# Altium footprint library Connectors.PcbLib: 37 footprints (part 1 of 3)
Each footprint in its own frame and in the unit in brackets; x right, y up, seen from the top. Pads: shape width x height; smd on the part's side, far side on the other; paste and mask are expansions set on the pad; w line width, h text height; cw(c..) or ccw(c..) is an arc to the next point about the centre after c.
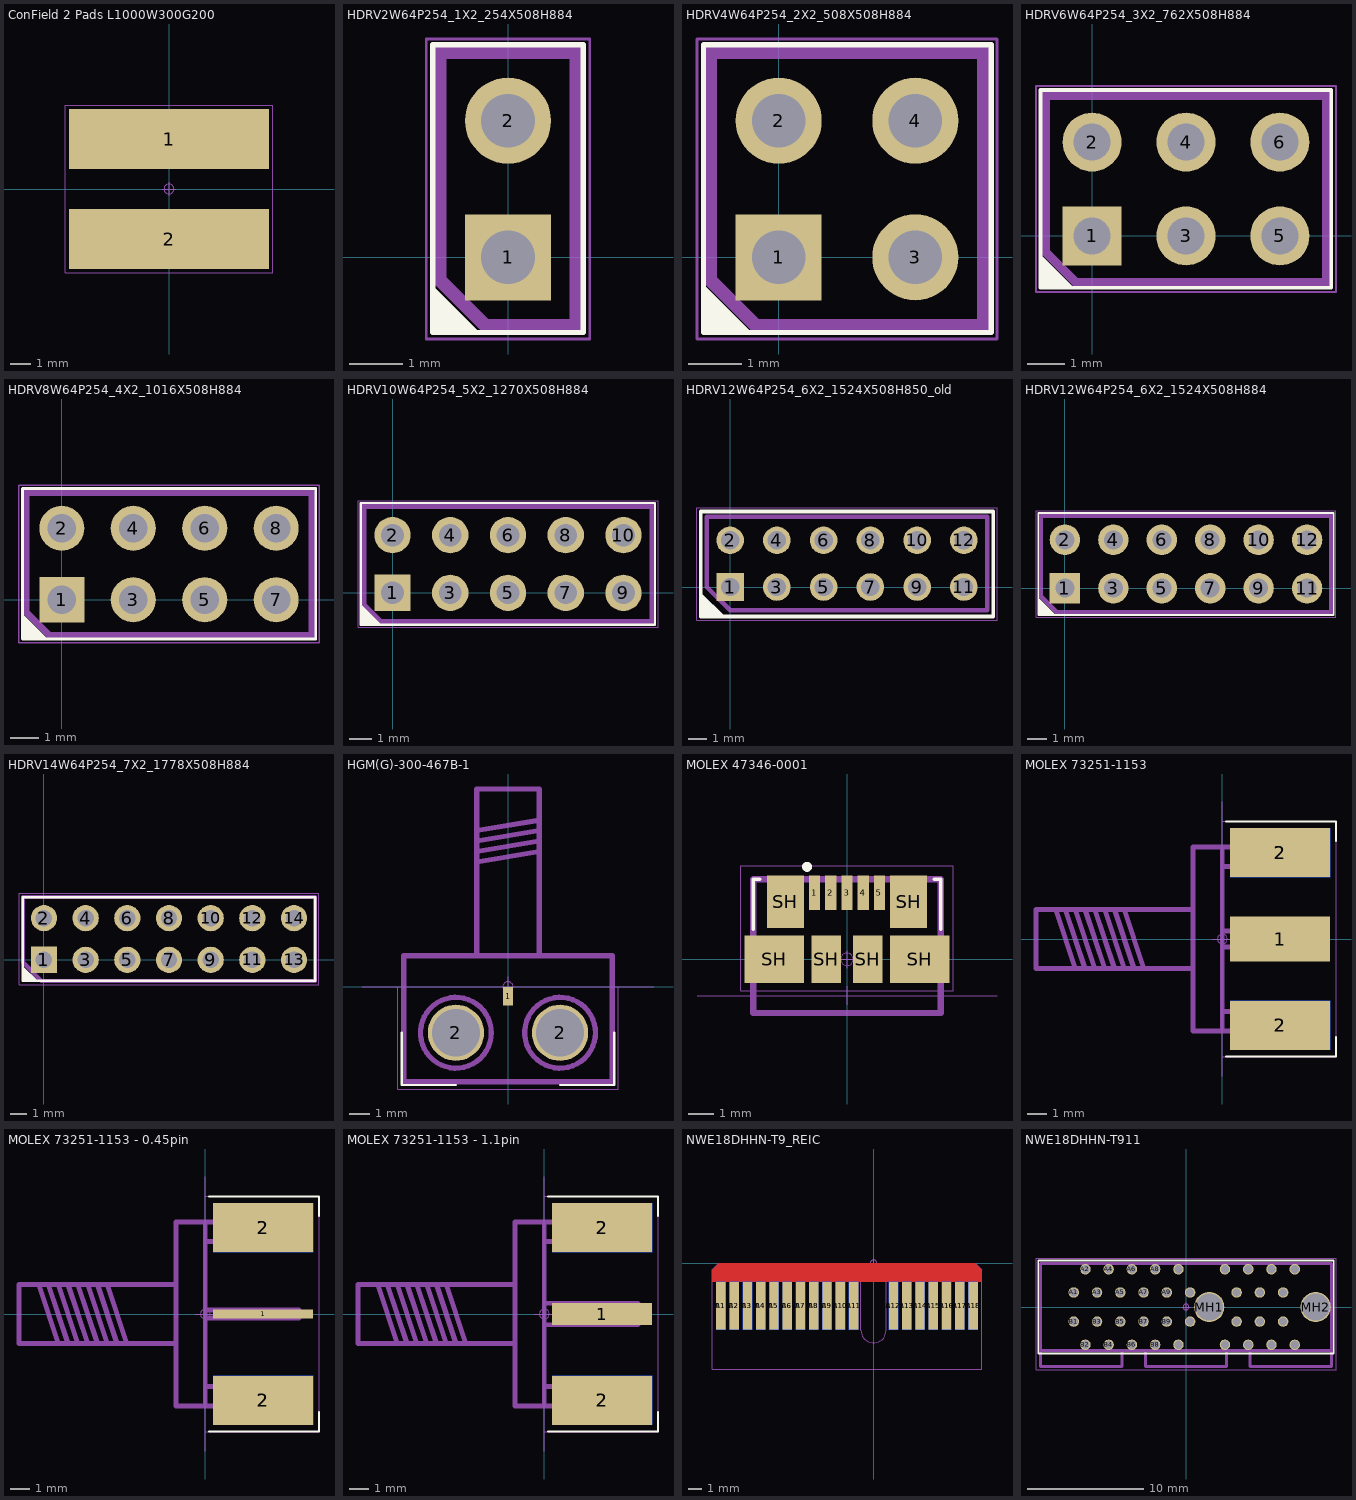
[diagram p0: the footprints below, top view; thin cyan lines are the x and y axes]

## ConField 2 Pads L1000W300G200 [mm] "Contact Field 2 Pads 10mm x 3 mm gap 2 mm"
pads (2):
  rect 10x3 smd: 1(0,2.5) 2(0,-2.5)
Top Overlay:
  text ".Net1" at 5.5,2 h1.5
  text ".Net2" at 5.5,-3 h1.5
Top Courtyard:
  circle w0.05: c0,0 r0.25
  lines w0.05: -0.35,0 0.35,0 ; 0,-0.35 0,0.35 ; -5.2,-4.2 -5.2,4.2 5.2,4.2 5.2,-4.2 -5.2,-4.2

## HDRV2W64P254_1X2_254X508H884 [mm] "Header, Vertical, 2.54 mm pitch; 0.64 mm lead width, 2 pins, 2 rows, 1 pin per row, 2.54 mm L X 5.08 mm W X 8.84 mm H body"
height 8.84
pads (2):
  rect 1.6x1.6 hole 1 paste-1.6: 1(0,0)
  round 1.6 hole 1 paste-1.6: 2(0,2.54)
Top Overlay:
  region: -1.4,-1.4 -1.4,-0.53 -0.53,-1.4
  lines w0.1: -1.4,-1.4 -1.4,3.95 1.4,3.95 1.4,-1.4 -1.4,-1.4
Top Assembly:
  lines w0.25: -1.27,-0.423 -0.423,-1.27 1.27,-1.27 1.27,3.81 -1.27,3.81 -1.27,-0.423
  text ".Designator" at -1.8,-0.7 h1.5
Top Courtyard:
  circle w0.05: c0,0 r0.25
  lines w0.05: -0.35,0 0.35,0 ; 0,-0.35 0,0.35 ; -1.52,-1.52 -1.52,4.06 1.52,4.06 1.52,-1.52 -1.52,-1.52
3D body "HDRV2W64P254_1X2_254X508H884.STEP": height 8.84, standoff -2.3, extent -1.27,-1.27 1.27,3.81

## HDRV4W64P254_2X2_508X508H884 [mm] "Header, Vertical, 2.54 mm pitch; 0.64 mm lead width, 4 pins, 2 rows, 2 pins per row, 5.08 mm L X 5.08 mm W X 8.84 mm H body"
height 8.84
pads (4):
  rect 1.6x1.6 hole 1 paste-1.6: 1(0,0)
  round 1.6 hole 1 paste-1.6: 2(0,2.54) 3(2.54,0) 4(2.54,2.54)
Top Overlay:
  region: -1.4,-0.5 -0.5,-1.4 -1.4,-1.4
  lines w0.1: -1.4,-1.4 -1.4,3.95 3.95,3.95 3.95,-1.4 -1.4,-1.4
Top Assembly:
  lines w0.25: -1.27,-0.43 -0.43,-1.27 3.81,-1.27 3.81,3.81 -1.27,3.81 -1.27,-0.43
  text ".Designator" at -0.9,0.8 h1.5
Top Courtyard:
  circle w0.05: c0,0 r0.25
  lines w0.05: -0.35,0 0.35,0 ; 0,-0.35 0,0.35 ; -1.52,-1.52 -1.52,4.06 4.06,4.06 4.06,-1.52 -1.52,-1.52
3D body "HDRV4W64P254_2X2_508X508H884.STEP": height 8.84, standoff -2.3, extent -1.27,-1.27 3.81,3.81

## HDRV6W64P254_3X2_762X508H884 [mm] "Header, Vertical, 2.54 mm pitch; 0.64 mm lead width, 6 pins, 2 rows, 3 pins per row, 7.62 mm L X 5.08 mm W X 8.84 mm H body"
height 8.84
pads (6):
  rect 1.6x1.6 hole 1 paste-1.6: 1(0,0)
  round 1.6 hole 1 paste-1.6: 2(0,2.54) 3(2.54,0) 4(2.54,2.54) 5(5.08,0) 6(5.08,2.54)
Top Overlay:
  region: -1.4,-0.5 -0.5,-1.4 -1.4,-1.4
  lines w0.1: -1.4,-1.4 6.475,-1.4 6.475,3.95 -1.4,3.95 -1.4,-1.4
Top Assembly:
  lines w0.25: -1.27,-0.43 -1.27,3.81 6.35,3.81 6.35,-1.27 -0.43,-1.27 -1.27,-0.43
  text ".Designator" at -0.9,0.9 h1.5
Top Courtyard:
  circle w0.05: c0,0 r0.25
  lines w0.05: -0.35,0 0.35,0 ; 0,-0.35 0,0.35 ; -1.52,-1.52 6.6,-1.52 6.6,4.06 -1.52,4.06 -1.52,-1.52
3D body "HDRV6W64P254_3X2_762X508H884.STEP": height 8.84, standoff -2.3, extent -1.27,-1.27 6.35,3.81

## HDRV8W64P254_4X2_1016X508H884 [mm] "Header, Vertical, 2.54 mm pitch; 0.64 mm lead width, 8 pins, 2 rows, 4 pins per row, 10.16 mm L X 5.08 mm W X 8.84 mm H body"
height 8.84
pads (8):
  rect 1.6x1.6 hole 1 paste-1.6: 1(0,0)
  round 1.6 hole 1 paste-1.6: 2(0,2.54) 3(2.54,0) 4(2.54,2.54) 5(5.08,0) 6(5.08,2.54) 7(7.62,0) 8(7.62,2.54)
Top Overlay:
  region: -1.4,-0.5 -0.5,-1.4 -1.4,-1.4
  lines w0.1: -1.4,-1.4 -1.4,3.95 9.025,3.95 9.025,-1.4 -1.4,-1.4
Top Assembly:
  lines w0.25: -1.27,-0.43 -0.43,-1.27 8.89,-1.27 8.89,3.81 -1.27,3.81 -1.27,-0.43
  text ".Designator" at -0.4,0.8 h1.5
Top Courtyard:
  circle w0.05: c0,0 r0.25
  lines w0.05: -0.35,0 0.35,0 ; 0,-0.35 0,0.35 ; -1.52,-1.52 -1.52,4.06 9.14,4.06 9.14,-1.52 -1.52,-1.52
3D body "HDRV8W64P254_4X2_1016X508H884.STEP": height 8.84, standoff -2.3, extent -1.27,-1.27 8.89,3.81

## HDRV10W64P254_5X2_1270X508H884 [mm] "Header, Vertical, 2.54 mm pitch; 0.64 mm lead width, 10 pins, 2 rows, 5 pins per row, 12.70 mm L X 5.08 mm W X 8.84 mm H body"
height 8.84
pads (10):
  rect 1.6x1.6 hole 1 paste-1.59: 1(0,0)
  round 1.6 hole 1 paste-1.59: 2(0,2.54) 3(2.54,0) 4(2.54,2.54) 5(5.08,0) 6(5.08,2.54) 7(7.62,0) 8(7.62,2.54) 9(10.16,0) 10(10.16,2.54)
Top Overlay:
  region: -1.4,-0.5 -0.5,-1.4 -1.4,-1.4
  lines w0.1: -1.4,-1.4 11.55,-1.4 11.55,3.95 -1.4,3.95 -1.4,-1.4
Top Assembly:
  lines w0.25: -1.27,-0.53 -1.27,3.81 11.43,3.81 11.43,-1.27 -0.53,-1.27 -1.27,-0.53
  text ".Designator" at 1.6,0.7 h1.5
Top Courtyard:
  circle w0.05: c0,0 r0.25
  lines w0.05: -0.35,0 0.35,0 ; 0,-0.35 0,0.35 ; -1.52,-1.52 11.68,-1.52 11.68,4.06 -1.52,4.06 -1.52,-1.52
3D body "HDRV10W64P254_5X2_1270X508H884.STEP": height 8.84, standoff -2.3, extent -1.27,-1.27 11.43,3.81

## HDRV12W64P254_6X2_1524X508H850_old [mm] "Header, Vertical, 2.54 mm pitch; 0.64 mm lead width, 12 pins, 2 rows, 6 pins per row, 15.24 mm L X 5.08 mm W X 8.50 mm H body"
height 8.5
pads (12):
  rect 1.5x1.5 hole 1 paste-1.26: 1(0,0)
  round 1.5 hole 1 paste-1.26: 2(0,2.54) 3(2.54,0) 4(2.54,2.54) 5(5.08,0) 6(5.08,2.54) 7(7.62,0) 8(7.62,2.54) 9(10.16,0) 10(10.16,2.54) 11(12.7,0) 12(12.7,2.54)
Top Overlay:
  region: -1.6,-0.3 -0.3,-1.6 -1.6,-1.6
  lines w0.2: -1.6,-1.6 14.3,-1.6 14.3,4.1 -1.6,4.1 -1.6,-1.6
Top Assembly:
  lines w0.25: -1.27,0 -1.27,3.81 13.97,3.81 13.97,-1.27 0,-1.27 -1.27,0
  text ".Designator" at 2.1,0.8 h1.5
Top Courtyard:
  circle w0.05: c0,0 r0.25
  lines w0.05: -0.35,0 0.35,0 ; 0,-0.35 0,0.35 ; -1.8,-1.8 14.5,-1.8 14.5,4.3 -1.8,4.3 -1.8,-1.8
3D body "HDRV12W64P254_6X2_1524X508H850.STEP": height 8.5, standoff -2.32, extent -1.27,-1.27 13.97,3.81

## HDRV12W64P254_6X2_1524X508H884 [mm] "Header, Vertical, 2.54 mm pitch; 0.64 mm lead width, 12 pins, 2 rows, 6 pins per row, 15.24 mm L X 5.08 mm W X 8.84 mm H body"
height 8.84
pads (12):
  rect 1.6x1.6 hole 1 paste-1.6: 1(0,0)
  round 1.6 hole 1 paste-1.6: 2(0,2.54) 3(2.54,0) 4(2.54,2.54) 5(5.08,0) 6(5.08,2.54) 7(7.62,0) 8(7.62,2.54) 9(10.16,0) 10(10.16,2.54) 11(12.7,0) 12(12.7,2.54)
Top Overlay:
  region: -1.403,-0.496 -0.503,-1.396 -1.4,-1.4
  lines w0.1: -1.4,-1.4 -1.4,3.95 14.1,3.95 14.1,-1.4 -1.4,-1.4
Top Assembly:
  lines w0.25: -1.27,-0.43 -0.43,-1.27 13.97,-1.27 13.97,3.81 -1.27,3.81 -1.27,-0.43
  text ".Designator" at 2.4,0.8 h1.5
Top Courtyard:
  circle w0.05: c0,0 r0.25
  lines w0.05: -0.35,0 0.35,0 ; 0,-0.35 0,0.35 ; -1.52,-1.52 -1.52,4.06 14.22,4.06 14.22,-1.52 -1.52,-1.52
3D body "HDRV12W64P254_6X2_1524X508H884.STEP": height 8.84, standoff -2.3, extent -1.27,-1.27 13.97,3.81

## HDRV14W64P254_7X2_1778X508H884 [mm] "Header, Vertical, 2.54 mm pitch; 0.64 mm lead width, 14 pins, 2 rows, 7 pins per row, 17.78 mm L X 5.08 mm W X 8.84 mm H body"
height 8.84
pads (14):
  rect 1.6x1.6 hole 1 paste-1.6: 1(0,0)
  round 1.6 hole 1 paste-1.6: 2(0,2.54) 3(2.54,0) 4(2.54,2.54) 5(5.08,0) 6(5.08,2.54) 7(7.62,0) 8(7.62,2.54) 9(10.16,0) 10(10.16,2.54) 11(12.7,0) 12(12.7,2.54) 13(15.24,0) 14(15.24,2.54)
Top Overlay:
  region: -1.283,-0.376 -0.383,-1.276 -1.28,-1.28
  lines w0.15: -1.28,-1.28 -1.28,3.82 16.52,3.82 16.52,-1.28 -1.28,-1.28
Top Assembly:
  lines w0.25: -1.28,-0.148 -0.148,-1.28 16.52,-1.28 16.52,3.82 -1.28,3.82 -1.28,-0.148
  text ".Designator" at 0,0 h1.5
Top Courtyard:
  circle w0.05: c0,0 r0.25
  lines w0.05: -0.35,0 0.35,0 ; 0,-0.35 0,0.35 ; -1.52,-1.52 -1.52,4.06 16.76,4.06 16.76,-1.52 -1.52,-1.52
3D body "HDRV14W64P254_7X2_1778X508H884.STEP": height 8.84, standoff -2, extent -1.27,-1.27 16.51,3.81

## HGM(G)-300-467B-1 [mm] "Hirose edge SMA 2.92 Press"
height 4
pads (3):
  rect 0.5x0.9 smd: 1(0,-0.45)
  round 2.7 hole 2.3: 2(-2.5,-2.2) 2(2.5,-2.2)
Top Overlay:
  lines w0.1: -5.1,-2.2 -5.1,-4.7 -2.5,-4.7 ; 2.5,-4.7 5.1,-4.7 5.1,-2.2
Bottom Overlay:
  lines w0.1: -5.1,-2.2 -5.1,-4.7 -2.5,-4.7 ; 2.5,-4.7 5.1,-4.7 5.1,-2.2
Top Assembly:
  circle w0.25: c2.5,-2.2 r1.7
  circle w0.25: c-2.5,-2.2 r1.7
  lines w0.25: -1.5,1.5 -1.5,9.5 1.5,9.5 1.5,1.5 ; -1.5,6 1.5,6.5 ; -1.5,6.5 1.5,7 ; -1.5,7 1.5,7.5 ; -1.5,7.5 1.5,8 ; -5,-4.55 5,-4.55 5,1.5 -5,1.5 -5,-4.55
  text ".Designator" at -3.2,0.1 h1.5
Top Courtyard:
  circle w0.05: c0,0 r0.25
  lines w0.05: -7,0 7,0 ; -5.3,0 -5.3,-4.9 5.3,-4.9 5.3,0 ; -0.5,0 0.5,0 ; 0,-0.5 0,0.5
Bottom Courtyard:
  circle w0.05: c0,0 r0.25
  lines w0.05: -7,0 7,0 ; -5.3,0 -5.3,-4.9 5.3,-4.9 5.3,0 ; -0.5,0 0.5,0 ; 0,-0.5 0,0.5
3D body "HRM(G)-300-467B-1.stp": height 4, standoff -4, extent -5,-4.55 5,9.5

## MOLEX 47346-0001 [mm] "Molex USB - micro B USB 2.0 Receptacle Connector 5 Position Surface Mount, Right Angle"
height 3.5
pads (11):
  rect 0.45x1.38 smd: 1(-1.3,2.66) 2(-0.65,2.66) 3(0,2.66) 4(0.65,2.66) 5(1.3,2.66)
  rect 2.375x1.9 smd: SH(-2.913,0) SH(2.913,0)
  rect 1.475x2.1 smd: SH(-2.462,2.3) SH(2.462,2.3)
  rect 1.175x1.9 smd: SH(-0.837,0) SH(0.837,0)
Top Overlay:
  circle w0.25: c-1.6,3.7 r0.075
  lines w0.15: -3.75,1.2 -3.75,3.2 -3.5,3.2 ; 3.5,3.2 3.75,3.2 3.75,1.2
Top Assembly:
  lines w0.25: -3.75,-2.15 -3.75,3.2 3.75,3.2 3.75,-2.15 -3.75,-2.15
  text ".Designator" at -3.302,-0.099 h1.5
Top Courtyard:
  circle w0.05: c0,0 r0.25
  lines w0.05: -6,-1.45 6,-1.45 ; -0.35,0 0.35,0 ; 0,-1.825 0,-1.075 ; 0,-0.35 0,0.35 ; -4.25,-1.25 4.25,-1.25 4.25,3.75 -4.25,3.75 -4.25,-1.25
  text "PCB EDGE" at -5.91,-1.853 h0.31
3D body "47346-0001--3DModel-STEP-56544.STEP": height 2.7, standoff -0.25, extent -4.18,-2.205 4.18,3.225

## MOLEX 73251-1153 [mm] "MOLEX 50 Ohms, SMA Jack Receptacle, Edge Mount, .25µm Gold (Au) Plating"
height 4.5
pads (5):
  rect 5.1x2.3 smd: 1(2.95,0)
  rect 5.1x2.5 smd: 2(2.95,-4.4) 2(2.95,4.4)
  rect 5.1x2.5 smd far side: 2(2.95,-4.4) 2(2.95,4.4)
Top Overlay:
  lines w0.1: 0.2,-6 5.8,-6 5.8,-5 ; 0.2,6 5.8,6 5.8,5
Bottom Overlay:
  lines w0.1: 0.2,-6 5.8,-6 5.8,-5 ; 0.2,6 5.8,6 5.8,5
Top Assembly:
  lines w0.25: -8.5,1.5 -7.5,-1.5 ; -8,1.5 -7,-1.5 ; -7.5,1.5 -6.5,-1.5 ; -7,1.5 -6,-1.5 ; -6.5,1.5 -5.5,-1.5 ; -6,1.5 -5,-1.5 ; -5.5,1.5 -4.5,-1.5 ; -5,1.5 -4,-1.5 ; -1.5,-1.5 -9.5,-1.5 -9.5,1.5 -1.5,1.5 ; 0,-3.7 4.75,-3.7 4.75,-4.7 0,-4.7 ; 0,-0.4 4.775,-0.4 4.775,0.4 0,0.4 ; 0,3.7 4.75,3.7 4.75,4.7 0,4.7 ; 0,-4.7 -1.5,-4.7 -1.5,4.7 0,4.7 ; 0,-4.7 0,4.7
  text ".Designator" at 0.3,1.3 h1.5
Bottom Assembly:
  lines w0.25: -8.5,1.5 -7.5,-1.5 ; -8,1.5 -7,-1.5 ; -7.5,1.5 -6.5,-1.5 ; -7,1.5 -6,-1.5 ; -6.5,1.5 -5.5,-1.5 ; -6,1.5 -5,-1.5 ; -5.5,1.5 -4.5,-1.5 ; -5,1.5 -4,-1.5 ; -1.5,-1.5 -9.5,-1.5 -9.5,1.5 -1.5,1.5 ; 0,-3.7 4.75,-3.7 4.75,-4.7 0,-4.7 ; 0,3.7 4.75,3.7 4.75,4.7 0,4.7 ; 0,-4.7 0,4.7 ; 0,-4.7 -1.5,-4.7 -1.5,4.7 0,4.7
Top Courtyard:
  circle w0.05: c0,0 r0.25
  lines w0.05: -0.5,0 0.5,0 ; 0,-7 0,7 ; 0,-6 5.8,-6 5.8,6 0,6
Bottom Courtyard:
  circle w0.05: c0,0 r0.25
  lines w0.05: -0.5,0 0.5,0 ; 0,-7 0,7 ; 0,-6 5.8,-6 5.8,6 0,6
3D body "732511150.stp": height 4.36, standoff -3.56, extent -9.5,-4.762 4.775,4.763

## MOLEX 73251-1153 - 0.45pin [mm] "MOLEX 50 Ohms, SMA Jack Receptacle, Edge Mount, .25µm Gold (Au) Plating"
height 4.5
pads (5):
  rect 5.1x0.45 smd: 1(2.95,0)
  rect 5.1x2.5 smd: 2(2.95,-4.4) 2(2.95,4.4)
  rect 5.1x2.5 smd far side: 2(2.95,-4.4) 2(2.95,4.4)
Top Overlay:
  lines w0.1: 0.2,-6 5.8,-6 5.8,-5 ; 0.2,6 5.8,6 5.8,5
Bottom Overlay:
  lines w0.1: 0.2,-6 5.8,-6 5.8,-5 ; 0.2,6 5.8,6 5.8,5
Top Assembly:
  lines w0.25: -8.5,1.5 -7.5,-1.5 ; -8,1.5 -7,-1.5 ; -7.5,1.5 -6.5,-1.5 ; -7,1.5 -6,-1.5 ; -6.5,1.5 -5.5,-1.5 ; -6,1.5 -5,-1.5 ; -5.5,1.5 -4.5,-1.5 ; -5,1.5 -4,-1.5 ; -1.5,-1.5 -9.5,-1.5 -9.5,1.5 -1.5,1.5 ; 0,-3.7 4.75,-3.7 4.75,-4.7 0,-4.7 ; 0,-0.2 4.775,-0.2 4.775,0.2 0,0.2 ; 0,3.7 4.75,3.7 4.75,4.7 0,4.7 ; 0,-4.7 0,4.7 ; 0,-4.7 -1.5,-4.7 -1.5,4.7 0,4.7
  text ".Designator" at 0.3,1.3 h1.5
Bottom Assembly:
  lines w0.25: -8.5,1.5 -7.5,-1.5 ; -8,1.5 -7,-1.5 ; -7.5,1.5 -6.5,-1.5 ; -7,1.5 -6,-1.5 ; -6.5,1.5 -5.5,-1.5 ; -6,1.5 -5,-1.5 ; -5.5,1.5 -4.5,-1.5 ; -5,1.5 -4,-1.5 ; -1.5,-1.5 -9.5,-1.5 -9.5,1.5 -1.5,1.5 ; 0,-3.7 4.75,-3.7 4.75,-4.7 0,-4.7 ; 0,3.7 4.75,3.7 4.75,4.7 0,4.7 ; 0,-4.7 -1.5,-4.7 -1.5,4.7 0,4.7 ; 0,-4.7 0,4.7
Top Courtyard:
  circle w0.05: c0,0 r0.25
  lines w0.05: -0.5,0 0.5,0 ; 0,-7 0,7 ; 0,-6 5.8,-6 5.8,6 0,6
Bottom Courtyard:
  circle w0.05: c0,0 r0.25
  lines w0.05: -0.5,0 0.5,0 ; 0,-7 0,7 ; 0,-6 5.8,-6 5.8,6 0,6
3D body "732511150.stp": height 4.36, standoff -3.56, extent -9.5,-4.762 4.775,4.763

## MOLEX 73251-1153 - 1.1pin [mm] "MOLEX 50 Ohms, SMA Jack Receptacle, Edge Mount, .25µm Gold (Au) Plating"
height 4.5
pads (5):
  rect 5.1x1.1 smd: 1(2.95,0)
  rect 5.1x2.5 smd: 2(2.95,-4.4) 2(2.95,4.4)
  rect 5.1x2.5 smd far side: 2(2.95,-4.4) 2(2.95,4.4)
Top Overlay:
  lines w0.1: 0.2,-6 5.8,-6 5.8,-5 ; 0.2,6 5.8,6 5.8,5
Bottom Overlay:
  lines w0.1: 0.2,-6 5.8,-6 5.8,-5 ; 0.2,6 5.8,6 5.8,5
Top Assembly:
  lines w0.25: -8.5,1.5 -7.5,-1.5 ; -8,1.5 -7,-1.5 ; -7.5,1.5 -6.5,-1.5 ; -7,1.5 -6,-1.5 ; -6.5,1.5 -5.5,-1.5 ; -6,1.5 -5,-1.5 ; -5.5,1.5 -4.5,-1.5 ; -5,1.5 -4,-1.5 ; -1.5,-1.5 -9.5,-1.5 -9.5,1.5 -1.5,1.5 ; 0,-3.7 4.75,-3.7 4.75,-4.7 0,-4.7 ; 0,-0.55 4.775,-0.55 4.775,0.55 0,0.55 ; 0,3.7 4.75,3.7 4.75,4.7 0,4.7 ; 0,-4.7 0,4.7 ; 0,-4.7 -1.5,-4.7 -1.5,4.7 0,4.7
  text ".Designator" at 0.3,1.3 h1.5
Bottom Assembly:
  lines w0.25: -8.5,1.5 -7.5,-1.5 ; -8,1.5 -7,-1.5 ; -7.5,1.5 -6.5,-1.5 ; -7,1.5 -6,-1.5 ; -6.5,1.5 -5.5,-1.5 ; -6,1.5 -5,-1.5 ; -5.5,1.5 -4.5,-1.5 ; -5,1.5 -4,-1.5 ; -1.5,-1.5 -9.5,-1.5 -9.5,1.5 -1.5,1.5 ; 0,-3.7 4.75,-3.7 4.75,-4.7 0,-4.7 ; 0,3.7 4.75,3.7 4.75,4.7 0,4.7 ; 0,-4.7 -1.5,-4.7 -1.5,4.7 0,4.7 ; 0,-4.7 0,4.7
Top Courtyard:
  circle w0.05: c0,0 r0.25
  lines w0.05: -0.5,0 0.5,0 ; 0,-7 0,7 ; 0,-6 5.8,-6 5.8,6 0,6
Bottom Courtyard:
  circle w0.05: c0,0 r0.25
  lines w0.05: -0.5,0 0.5,0 ; 0,-7 0,7 ; 0,-6 5.8,-6 5.8,6 0,6
3D body "732511150.stp": height 4.36, standoff -3.56, extent -9.5,-4.762 4.775,4.763

## NWE18DHHN-T9_REIC [mm] "PCI Edge Connector Recep for NWE18DHHN-T921"
pads (36):
  rect 0.7x3.6 smd paste-0.35: A1(-11.5,-3.2) A2(-10.5,-3.2) A3(-9.5,-3.2) A4(-8.5,-3.2) A5(-7.5,-3.2) A6(-6.5,-3.2) A7(-5.5,-3.2) A8(-4.5,-3.2) A9(-3.5,-3.2) A10(-2.5,-3.2) A11(-1.5,-3.2) A12(1.5,-3.2) A13(2.5,-3.2) A14(3.5,-3.2) A15(4.5,-3.2) A16(5.5,-3.2) A17(6.5,-3.2) A18(7.5,-3.2)
  rect 0.7x3.6 smd far side paste-0.35: B1(-11.5,-3.2) B2(-10.5,-3.2) B3(-9.5,-3.2) B4(-8.5,-3.2) B5(-7.5,-3.2) B6(-6.5,-3.2) B7(-5.5,-3.2) B8(-4.5,-3.2) B9(-3.5,-3.2) B10(-2.5,-3.2) B11(-1.5,-3.2) B12(1.5,-3.2) B13(2.5,-3.2) B14(3.5,-3.2) B15(4.5,-3.2) B16(5.5,-3.2) B17(6.5,-3.2) B18(7.5,-3.2)
Top Layer:
  pour cut-out: -12.15,-1.4 -12.15,-0.5 -11.65,0 7.65,0 8.15,-0.5 8.15,-1.4
Bottom Layer:
  pour cut-out: -12.15,-1.4 -12.15,-0.5 -11.65,0 7.65,0 8.15,-0.5 8.15,-1.4
Top Solder:
  region: -12.15,-6 8.15,-6 8.15,-0.5 7.65,0 -11.65,0 -12.15,-0.5
Bottom Solder:
  region: -12.15,-6 8.15,-6 8.15,-0.5 7.65,0 -11.65,0 -12.15,-0.5
Top Courtyard:
  circle w0.05: c0,0 r0.25
  lines w0.05: -0.35,0 0.35,0 ; 0,-0.35 0,0.35 ; -11.65,0 -12.15,-0.5 -12.15,-8 8.15,-8 8.15,-0.5 7.65,0 1.45,0 0.95,-0.5 0.95,-5.05 cw(c0,-5.05) -0.95,-5.05 -0.95,-0.5 -1.45,0 -11.65,0 ; -11.65,0 -11.65,0
Bottom Courtyard:
  circle w0.05: c0,0 r0.25
  lines w0.05: -0.35,0 0.35,0 ; 0,-0.35 0,0.35 ; -11.65,0 -11.65,0 ; -11.65,0 -1.45,0 -0.95,-0.5 -0.95,-5.05 ccw(c0,-5.05) 0.95,-5.05 0.95,-0.5 1.45,0 7.65,0 8.15,-0.5 8.15,-8 -12.15,-8 -12.15,-0.5 -11.65,0

## NWE18DHHN-T911 [mm] "PCI-E Connemctor"
height 11.25
pads (38):
  round 0.9 hole 0.7 paste-0.35: A1(-9.65,1.25) A2(-8.65,3.25) A3(-7.65,1.25) A4(-6.65,3.25) A5(-5.65,1.25) A6(-4.65,3.25) A7(-3.65,1.25) A8(-2.65,3.25) A9(-1.65,1.25) A10(-0.65,3.25) A11(0.35,1.25) A12(3.35,3.25) A13(4.35,1.25) A14(5.35,3.25) A15(6.35,1.25) A16(7.35,3.25) A17(8.35,1.25) A18(9.35,3.25) B1(-9.65,-1.25) B2(-8.65,-3.25) B3(-7.65,-1.25) B4(-6.65,-3.25) B5(-5.65,-1.25) B6(-4.65,-3.25) B7(-3.65,-1.25) B8(-2.65,-3.25) B9(-1.65,-1.25) B10(-0.65,-3.25) B11(0.35,-1.25) B12(3.35,-3.25) B13(4.35,-1.25) B14(5.35,-3.25) B15(6.35,-1.25) B16(7.35,-3.25) B17(8.35,-1.25) B18(9.35,-3.25)
  round 2.6 hole 2.35 unplated paste-0.35: MH1(2,0) MH2(11.15,0)
Top Overlay:
  lines w0.15: -12.7,-4 12.7,-4 12.7,4 -12.7,4 -12.7,-4
Top Assembly:
  lines w0.25: -5.5,-3.75 -5.5,-5.1 -12.5,-5.1 -12.5,-3.75 ; -3.5,-3.75 -3.5,-5.1 3.5,-5.1 3.5,-3.75 ; 5.5,-3.75 5.5,-5.1 12.5,-5.1 12.5,-3.75 ; -12.5,-3.75 -12.5,3.75 12.5,3.75 12.5,-3.75 ; -12.5,-3.75 12.5,-3.75
  text ".Designator" at -10.4,-0.45 h1.5
Top Courtyard:
  circle w0.05: c0,0 r0.25
  lines w0.05: -0.35,0 0.35,0 ; 0,-0.35 0,0.35 ; -12.9,-5.4 -12.9,4.2 12.9,4.2 12.9,-5.4 -12.9,-5.4
3D body "NWE18DHHN-T911.STEP": height 11.25, standoff -4.4, extent -12.5,-5.1 12.5,3.75